# EAGLE library part ACPL-7C8X (library avago)
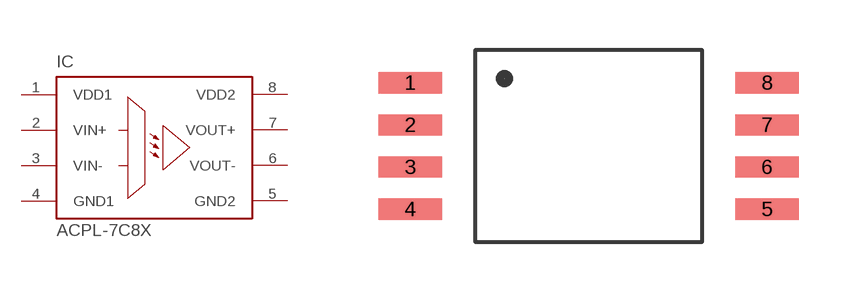
[diagram p0: symbol with the pads of SSO8; footprint SSO8]

Designator prefix IC

## ACPL-7C8X  [SSO8]
1  VDD1  pas
2  VIN+  pas
3  VIN-  pas
4  GND1  pas
5  GND2  pas
6  VOUT-  pas
7  VOUT+  pas
8  VDD2  pas

## Footprint SSO8 (pad centres in mm)
smd 1.905 x 0.64: 1 -5.37,1.905; 2 -5.37,0.635; 3 -5.37,-0.635; 4 -5.37,-1.905; 5 5.37,-1.905; 6 5.37,-0.635; 7 5.37,0.635; 8 5.37,1.905